# EAGLE library part PCA9505 (library 1dah)
40-ch IO expander
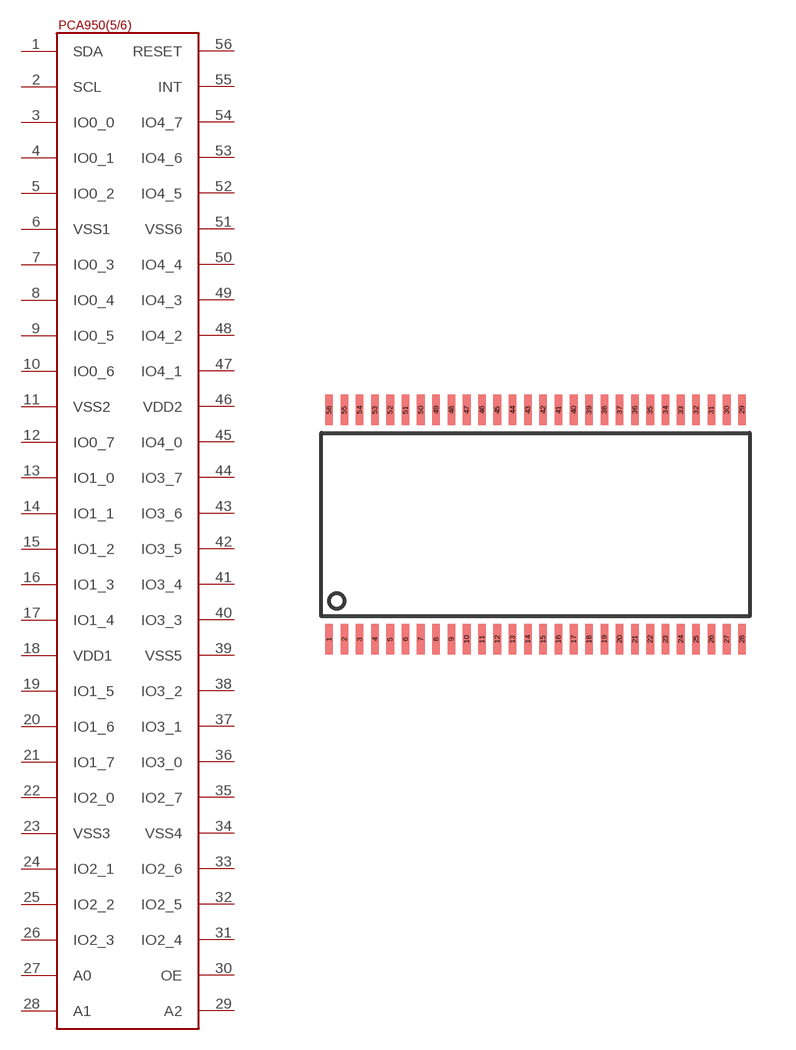
[diagram p12: symbol with the pads of TSSOP56; footprint TSSOP56]

Designator prefix -

## PCA9505  [TSSOP56]
1  SDA
2  SCL
3  IO0_0
4  IO0_1
5  IO0_2
6  VSS1
7  IO0_3
8  IO0_4
9  IO0_5
10  IO0_6
11  VSS2
12  IO0_7
13  IO1_0
14  IO1_1
15  IO1_2
16  IO1_3
17  IO1_4
18  VDD1
19  IO1_5
20  IO1_6
21  IO1_7
22  IO2_0
23  VSS3
24  IO2_1
25  IO2_2
26  IO2_3
27  A0
28  A1
29  A2
30  OE
31  IO2_4
32  IO2_5
33  IO2_6
34  VSS4
35  IO2_7
36  IO3_0
37  IO3_1
38  IO3_2
39  VSS5
40  IO3_3
41  IO3_4
42  IO3_5
43  IO3_6
44  IO3_7
45  IO4_0
46  VDD2
47  IO4_1
48  IO4_2
49  IO4_3
50  IO4_4
51  VSS6
52  IO4_5
53  IO4_6
54  IO4_7
55  INT
56  RESET

## Footprint TSSOP56 (pad centres in mm)
smd 0.25 x 1: 1 -6.75,-3.75; 2 -6.25,-3.75; 3 -5.75,-3.75; 4 -5.25,-3.75; 5 -4.75,-3.75; 6 -4.25,-3.75; 7 -3.75,-3.75; 8 -3.25,-3.75; 9 -2.75,-3.75; 10 -2.25,-3.75; 11 -1.75,-3.75; 12 -1.25,-3.75; 13 -0.75,-3.75; 14 -0.25,-3.75; 15 0.25,-3.75; 16 0.75,-3.75; 17 1.25,-3.75; 18 1.75,-3.75; 19 2.25,-3.75; 20 2.75,-3.75; 21 3.25,-3.75; 22 3.75,-3.75; 23 4.25,-3.75; 24 4.75,-3.75; 25 5.25,-3.75; 26 5.75,-3.75; 27 6.25,-3.75; 28 6.75,-3.75; 29 6.75,3.75; 30 6.25,3.75; 31 5.75,3.75; 32 5.25,3.75; 33 4.75,3.75; 34 4.25,3.75; 35 3.75,3.75; 36 3.25,3.75; 37 2.75,3.75; 38 2.25,3.75; 39 1.75,3.75; 40 1.25,3.75; 41 0.75,3.75; 42 0.25,3.75; 43 -0.25,3.75; 44 -0.75,3.75; 45 -1.25,3.75; 46 -1.75,3.75; 47 -2.25,3.75; 48 -2.75,3.75; 49 -3.25,3.75; 50 -3.75,3.75; 51 -4.25,3.75; 52 -4.75,3.75; 53 -5.25,3.75; 54 -5.75,3.75; 55 -6.25,3.75; 56 -6.75,3.75